# Altium footprint library 401.16-3+soic.8.PcbLib: 1 footprints
Each footprint in its own frame and in the unit in brackets; x right, y up, seen from the top. Pads: shape width x height; smd on the part's side, far side on the other; paste and mask are expansions set on the pad; w line width, h text height; cw(c..) or ccw(c..) is an arc to the next point about the centre after c.
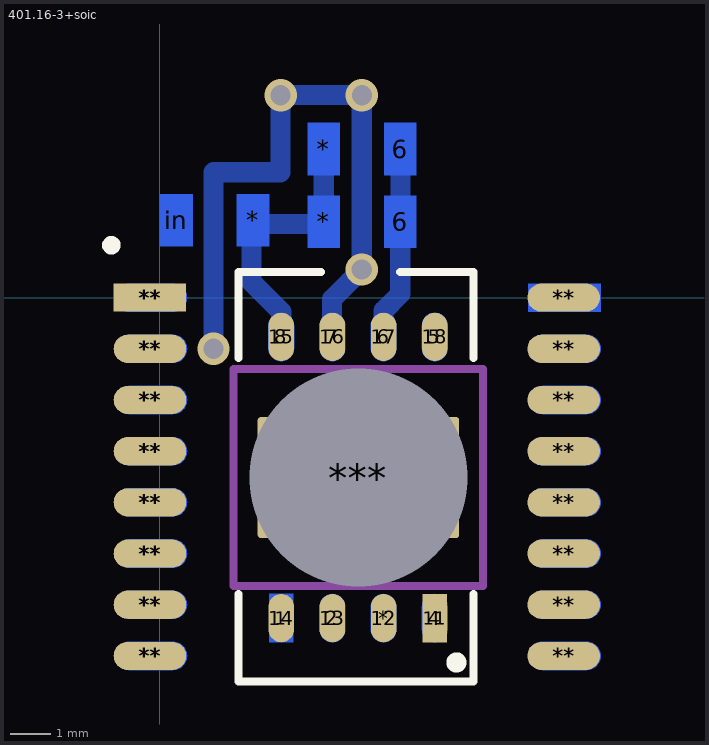
[diagram p0: the footprint, top view; thin cyan lines are the x and y axes]

## 401.16-3+soic [mm]
pads (55):
  rect 0.6x1.2 smd far side: 1(3.014,-7.953)
  oval 0.635x1.2 smd far side: 2(4.284,-7.953) 4(6.824,-7.953) 5(6.824,-0.975) 6(5.554,-0.975) 7(4.284,-0.975) 8(3.014,-0.975) *(5.554,-7.953)
  rect 0.8x1.3 smd far side: 6(5.968,1.884) 6(5.968,3.684) *(2.314,1.921) *(4.068,1.884) *(4.068,3.684) in(0.414,1.921)
  rect 0.6x1.2 smd: 11(6.824,-7.953)
  oval 0.635x1.2 smd: 12(5.554,-7.953) 13(4.284,-7.953) 14(3.014,-7.953) 15(3.014,-0.975) 16(4.284,-0.975) 17(5.554,-0.975) 18(6.824,-0.975)
  oval 1.8x0.7 smd: **(-0.243,-8.89) **(-0.243,-7.62) **(-0.243,-6.35) **(-0.243,-5.08) **(-0.243,-3.81) **(-0.243,-2.54) **(-0.243,-1.27) **(10.022,-8.89) **(10.022,-7.62) **(10.022,-6.35) **(10.022,-5.08) **(10.022,-3.81) **(10.022,-2.54) **(10.022,-1.27) **(10.022,0)
  rect 1.8x0.7 smd: **(-0.243,0)
  oval 1.8x0.7 smd far side: **(-0.222,-8.89) **(-0.222,-7.62) **(-0.222,-6.35) **(-0.222,-5.08) **(-0.222,-3.81) **(-0.222,-2.54) **(-0.222,-1.27) **(-0.222,0) **(10.043,-8.89) **(10.043,-7.62) **(10.043,-6.35) **(10.043,-5.08) **(10.043,-3.81) **(10.043,-2.54) **(10.043,-1.27)
  rect 1.8x0.7 smd far side: **(10.043,0)
  rrect5% 5x3 hole 5.4 square unplated: ***(4.931,-4.464)
via 5.011,0.7 diameter 0.8 hole 0.5
via 1.335,-1.27 diameter 0.8 hole 0.5
via 3,5.021 diameter 0.8 hole 0.5
via 5.015,5.021 diameter 0.8 hole 0.5
Bottom Layer:
  lines w0.5: 1.335,-1.27 1.335,3.113 3,3.113 3,5.028 ; 3,5.031 5.011,5.031 5.011,0.7 4.709,0.398 4.278,-0.034 4.278,-0.965 ; 3.014,-0.975 3.014,-0.352 2.279,0.383 2.279,1.827 4.068,1.827 4.068,3.684 ; 5.554,-0.975 5.554,-0.323 5.968,0.09 5.968,1.884 ; 5.974,1.89 5.974,3.684
Top Overlay:
  circle w0.254: c-1.2,1.3 r0.103
  circle w0.25: c7.361,-9.052 r0.125
  lines w0.2: 1.954,-7.35 1.954,-9.525 7.784,-9.525 7.784,-7.35 ; 1.954,-1.5 1.954,0.635 4,0.635 ; 5.968,0.635 7.784,0.635 7.784,-1.5
Bottom Overlay:
  circle w0.254: c-1.2,1.3 r0.103
  circle w0.25: c1.5,-9.1 r0.125
  lines w0.15: -0.3,1.26 -0.3,2.53 ; 3,1.26 3,2.53 ; 3.432,1.228 3.432,2.498 ; 3.439,3.049 3.439,4.319 ; 6.609,1.26 6.609,2.53 ; 6.614,3.049 6.614,4.319
  lines w0.2: 1.954,-7.35 1.954,-9.525 7.784,-9.525 7.784,-7.35 ; 1.954,-1.5 1.954,0.635 3.8,0.635 ; 5.968,0.635 7.784,0.635 7.784,-1.5
Bottom Solder:
  lines w0.5: 1.335,-1.27 1.335,3.113 3,3.113 3,5.028 ; 3,5.031 5.008,5.031 5.008,0.697 4.729,0.417 4.278,-0.034 4.278,-0.965
GND:
  lines w0.5: 0,-4.464 0,3.396 2.604,6 6.7,6 6.7,-1.5 1.7,-1.5 1.7,-4.464 0,-4.464
Mechanical 1:
  lines w0.2: 1.825,-7.15 1.825,-1.775 8.025,-1.775 8.025,-7.15 1.825,-7.15
3D body "SMD_RLC_0805.STEP": height -1.78, standoff -2.23, extent 0.41,1.233 2.41,2.483
3D body "SMD_RLC_0805.STEP": height -1.78, standoff -2.23, extent 4.068,3.059 6.068,4.309
3D body "SMD_RLC_0805.STEP": height -1.78, standoff -2.23, extent 4.063,1.27 6.063,2.52
3D body "401.16-3.STEP": height 2.5, standoff -0.1, extent 0.041,-9.439 9.341,0.561
3D body "401.16-3.STEP": height -2.9, standoff -5.5, extent 0.421,-9.556 9.721,0.444